# EAGLE library part DIFFAMP:THS4521(RI-RRO,145MHZ,3V) (library QuantumOptics)
THS4521 fully differential amp, based on THS4521.
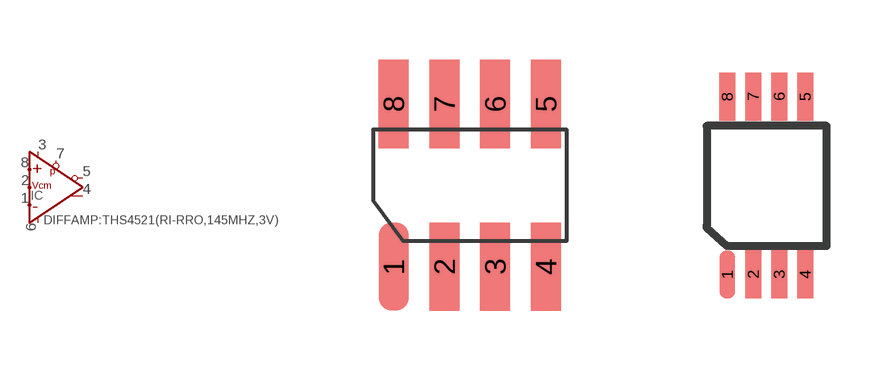
[diagram p120: symbol with the pads of SOIC-8; footprints SOIC-8, MSOP8]

Designator prefix IC

## DIFFAMP:THS4521(RI-RRO,145MHZ,3V)-THS4521D  [SOIC-8]
1  IN-  in
2  VOCM  in
3  V+
4  OUT+  out
5  OUT-  out
6  V-
7  /PD  in
8  IN+  in

## DIFFAMP:THS4521(RI-RRO,145MHZ,3V)-THS4521DGK  [MSOP8]
Pads as for SOIC-8

## Footprint SOIC-8 (pad centres in mm)
SOIC-8 (AKA SO-8), pads on 0.050" grid.
smd 0.75 x 2.2: 1 -1.905,-2.032; 2 -0.635,-2.032; 3 0.635,-2.032; 4 1.905,-2.032; 5 1.905,2.032; 6 0.635,2.032; 7 -0.635,2.032; 8 -1.905,2.032

## Footprint MSOP8 (pad centres in mm)
MSOP-8, A.K.A. RM-8. Use 0.025" grid.
smd 0.4 x 1.2: 1 -0.65,-1.905; 2 0,-1.905; 3 0.65,-1.905; 4 1.3,-1.905; 5 1.3,2.54; 6 0.65,2.54; 7 0,2.54; 8 -0.65,2.54